# EAGLE library part HILFSSCHUETZ_11-12_21-22 (library e-schuetze-relais)
Hilfsschütz mit 2 Öffnern
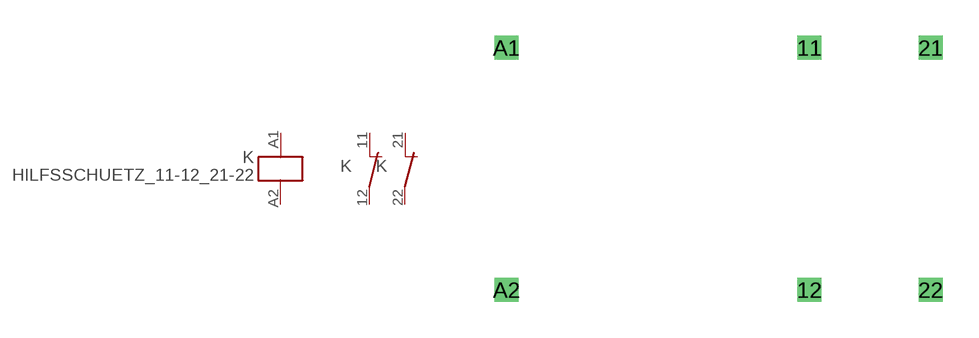
[diagram p4: symbol with the pads of HILFSSCHUETZ_11-12_21-22; footprint HILFSSCHUETZ_11-12_21-22]

Designator prefix K; gates G$1=SPULE 1=OEFFNER 2=OEFFNER

## HILFSSCHUETZ_11-12_21-22  [HILFSSCHUETZ_11-12_21-22]
11  1:1  pas
12  1:2  pas
21  2:1  pas
22  2:2  pas
A1  G$1:A1  in
A2  G$1:A2  in

## Footprint HILFSSCHUETZ_11-12_21-22 (pad centres in mm)
Dummy
drill 0.5 pad 1 square: 11 2.54,5.08; 12 2.54,-5.08; 21 7.62,5.08; 22 7.62,-5.08; A1 -10.16,5.08; A2 -10.16,-5.08